# Altium footprint library LINX CONREVSMA003.062.PCBLIB: 1 footprints
Each footprint in its own frame and in the unit in brackets; x right, y up, seen from the top. Pads: shape width x height; smd on the part's side, far side on the other; paste and mask are expansions set on the pad; w line width, h text height; cw(c..) or ccw(c..) is an arc to the next point about the centre after c.
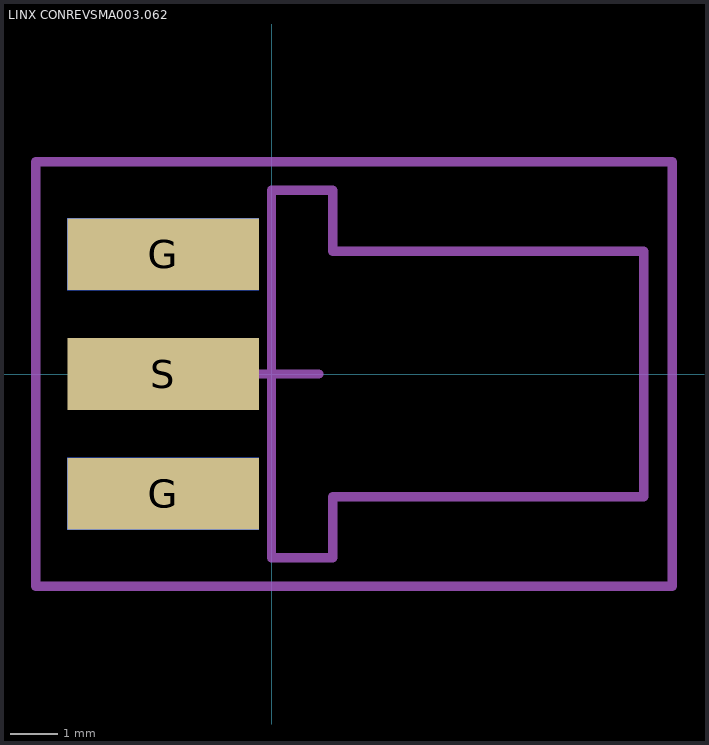
[diagram p0: the footprint, top view; thin cyan lines are the x and y axes]

## LINX CONREVSMA003.062 [mm] "RP-SMA FEMALE EDGE MOUNT FOR 0.062\" THICK BOARD"
height 4.62
pads (5):
  rect 4.06x1.52 smd: G(-2.3,-2.54) G(-2.3,2.54) S(-2.3,0)
  rect 4.06x1.52 smd far side: G(-2.3,-2.54) G(-2.3,2.54)
Mechanical 1:
  lines w0.2: 0,-3.9 1.3,-3.9 1.3,-2.6 7.9,-2.6 7.9,2.6 1.3,2.6 1.3,3.9 0,3.9 0,-3.9
Mechanical 15:
  lines w0.2: -1,0 1,0 ; 0,-1 0,1 ; -5,-4.5 8.5,-4.5 8.5,4.5 -5,4.5 -5,-4.5
3D body "Linx RP-SMA CONREVSMA003.062.STEP": height 4.61, standoff -3.31, extent -3.9,-3.965 7.86,3.965